# EAGLE library part MSM7717 (library m-pad-2.1)
OKI's MSM7717-01/02/03 Single Rail CODEC Description: The MSM7717 is a single-channel CODEC CMOS IC for voice signals ranging from 300 to 3400 Hz with filters for A/D and D/A conversion. Designed especially for a single-power supply and low-power applications, the device is optimized for ISDN terminals and telephone terminals in digital wireless systems. The device uses the same transmission clocks as those used in the MSM7508B and MSM7509B. The analog output, which can drive a 1.2 kW load, can directly drive a handset receiver differentially. Features: Single power supply: 2.7 V to 3.8 V Low power consumption Operating mode: 20 mW Typ. VDD = 3 V Power-down mode: 0.03 mW Typ. VDD = 3 V Conforms to ITU-T Companding law - MSM7717-01: m/A-law pin selectable - MSM7717-02: m-law - MSM7717-03: A-law Built-in PLL eliminates a master clock Serial data rate: 64/128/256/512/1024 kHz 96/192/384/768/1536/1544/2048/200 kHz Adjustable transmit gain Adjustable receive gain Built-in reference voltage supply Please send any comments to: messi@users.sourceforge.net
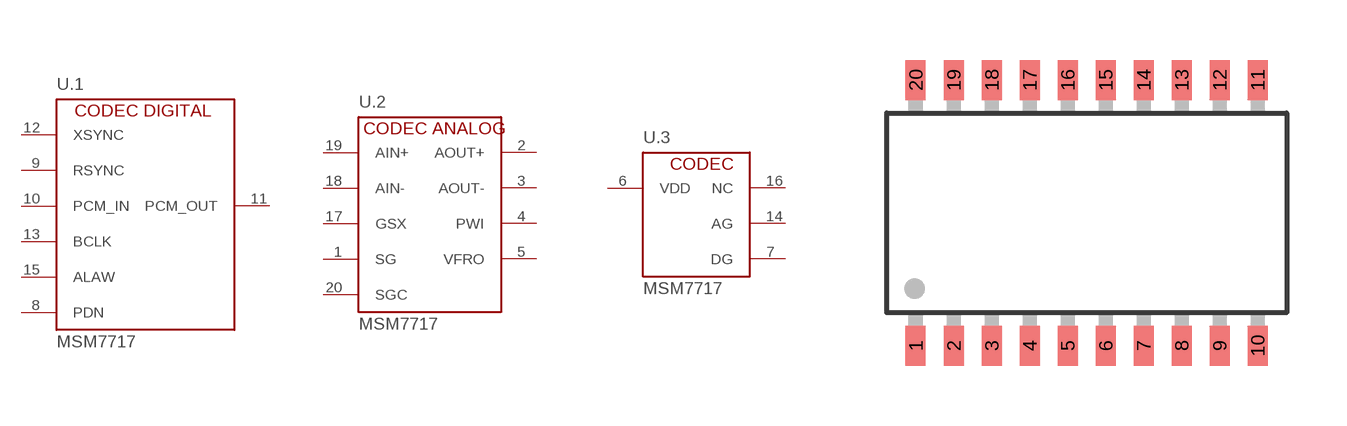
[diagram p173: symbol with the pads of SSOP20-P; footprint SSOP20-P]

Designator prefix U; gates .1=MSM7717_DIGITAL .2=MSM7717_ANALOG .3=MSM7717_PWR

## MSM7717-01  [SSOP20-P]
1  .2:SG  in
2  .2:AOUT+  out
3  .2:AOUT-  out
4  .2:PWI  out
5  .2:VFRO  out
6  .3:VDD  pwr
7  .3:DG  pwr
8  .1:PDN  in
9  .1:RSYNC  in
10  .1:PCM_IN  in
11  .1:PCM_OUT  out
12  .1:XSYNC  in
13  .1:BCLK  in
14  .3:AG  pwr
15  .1:ALAW  in
16  .3:NC  nc
17  .2:GSX  in
18  .2:AIN-  in
19  .2:AIN+  in
20  .2:SGC  in

## Footprint SSOP20-P (pad centres in mm)
SSOP20 package for the OKI 7702 and 7717
smd 0.5 x 1: 1 -4.275,-3.325; 2 -3.325,-3.325; 3 -2.375,-3.325; 4 -1.425,-3.325; 5 -0.475,-3.325; 6 0.475,-3.325; 7 1.425,-3.325; 8 2.375,-3.325; 9 3.325,-3.325; 10 4.275,-3.325; 11 4.275,3.325; 12 3.325,3.325; 13 2.375,3.325; 14 1.425,3.325; 15 0.475,3.325; 16 -0.475,3.325; 17 -1.425,3.325; 18 -2.375,3.325; 19 -3.325,3.325; 20 -4.275,3.325